# EAGLE library part MCP3204 (library Mine)
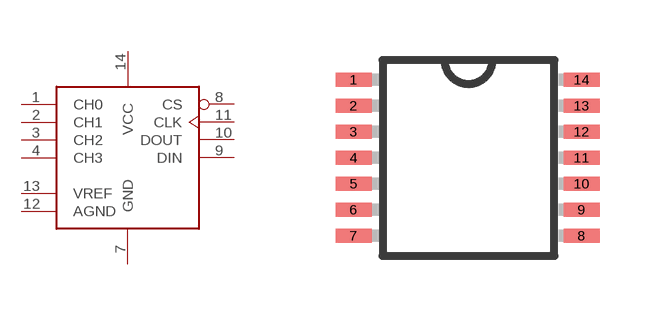
[diagram p16: symbol with the pads of TSSOP14; footprint TSSOP14]

Designator prefix IC

## MCP3204  [TSSOP14]
1  CH0  in
2  CH1  in
3  CH2  in
4  CH3  in
7  GND  pwr
8  CS  in
9  DIN  in
10  DOUT  out
11  CLK  in
12  AGND  pwr
13  VREF  in
14  VCC  pwr

## Footprint TSSOP14 (pad centres in mm)
14-Lead Thin Shrink Small Outline Package [TSSOP] Source: Analog Devices .. 780914713ADD8704_0.pdf
smd 0.9 x 0.35: 1 -2.875,1.95; 2 -2.875,1.3; 3 -2.875,0.65; 4 -2.875,0; 5 -2.875,-0.65; 6 -2.875,-1.3; 7 -2.875,-1.95; 8 2.825,-1.95; 9 2.825,-1.3; 10 2.825,-0.65; 11 2.825,0; 12 2.825,0.65; 13 2.825,1.3; 14 2.825,1.95